# Altium schematic symbol library ESS9018.Schlib: 1 symbol
Pins are listed as number, name and electrical type; pins without a type are passive.

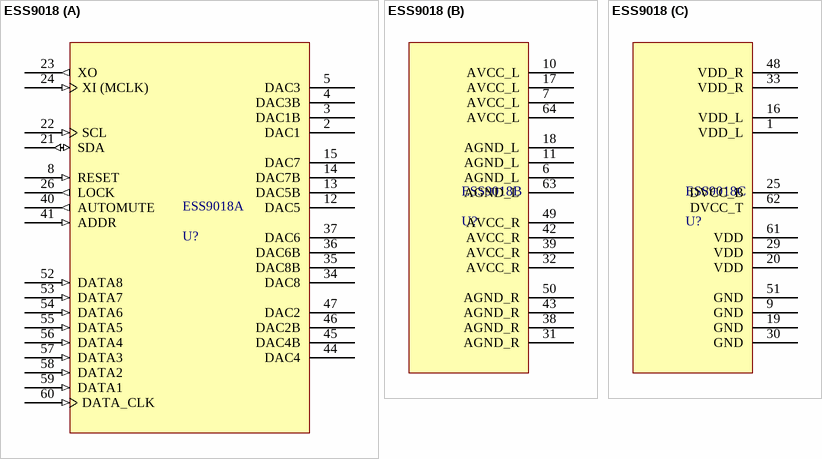
[diagram p0: symbol ESS9018]

## ESS9018
designator ESS9018, comment U?
Reference 32-bit Audio DAC
part A pins: 2 DAC1 "Differential Positive Analog Output 1", 3 DAC1B "Differential Negative Analog Output 1", 4 DAC3B "Differential Negaitve Analog Ouput 3", 5 DAC3 "Differential Positive Analog Output 3", 8 RESET (in) "Global Reset", 12 DAC5 "Differential Positive Analog Output 5", 13 DAC5B "Differential Negative Analog Output 5", 14 DAC7B "Differential Negative Analog Output 7", 15 DAC7 "Differential Positive Analog Output 7", 21 SDA (io) "I2C SDA", 22 SCL (in) "I2C SCL", 23 XO (out) "Xtal oscillator output", 24 XI (MCLK) (in) "Xtal oscillator input (Note:can also just be a clock input)", 26 LOCK (out) "Lock output", 34 DAC8 "Differential Positive Analog Output 8", 35 DAC8B "Differential Negative Analog Output 8", 36 DAC6B "Differential Negative Analog Output 6", 37 DAC6 "Differential Positive Analog Output 6", 40 AUTOMUTE (out) "Automute", 41 ADDR (in) "Chip Address Select", 44 DAC4 "Differential Positive Analog Output 4", 45 DAC4B "Differential Negative Analog Output 4", 46 DAC2B "Differential Negative Analog Output 2", 47 DAC2 "Differential Positive Analog Output 2", 52 DATA8 (in) "DSD Data8 or SPDIF Input8", 53 DATA7 (in) "DSD Data7 or SPDIF Input7", 54 DATA6 (in) "DSD Data6 or SPDIF Input6", 55 DATA5 (in) "DSD Data5 or PCM Data CH7/CH8 or SPDIF Input5", 56 DATA4 (in) "DSD Data4 or PCM Data CH5/CH6 or SPDIF Input4", 57 DATA3 (in) "DSD Data3 or PCM Data CH3/CH4 or SPDIF Input3", 58 DATA2 (in) "DSD Data2 or PCM Data CH1/CH2 or SPDIF Input2", 59 DATA1 (in) "DSD Data1 or PCM Frame Clock or SPDIF Input1", 60 DATA_CLK (in) "PCM Bit Clock or DSD Bit Clock"
part B pins: 6 AGND_L (power) "Analog Ground for Left channels", 7 AVCC_L (power) "Analog Power (+3.3V) for Left channels", 10 AVCC_L (power) "Analog Power (+3.3V) for Left channels", 11 AGND_L (power) "Analog Ground for Left channels", 17 AVCC_L (power) "Analog Power (+3.3V) for Left channels", 18 AGND_L (power) "Analog Ground for Left channels", 31 AGND_R (power) "Analog Ground for Right channels", 32 AVCC_R (power) "Analog Power (+3.3V) for Right channels", 38 AGND_R (power) "Analog Ground for Right channels", 39 AVCC_R (power) "Analog Power (+3.3V) for Right channels", 42 AVCC_R (power) "Analog Power (+3.3V) for Right channels", 43 AGND_R (power) "Analog Ground for Right channels", 49 AVCC_R (power) "Analog Power (+3.3V) for Right channels", 50 AGND_R (power) "Analog Ground for Right Channels", 63 AGND_L (power) "Analgo Ground for Left channels", 64 AVCC_L (power) "Analog power (+3.3V) for Left channels"
part C pins: 1 VDD_L (power) "Analog Power (+1.2V) for Left channels", 9 GND (power) "Digital Ground", 16 VDD_L (power) "Analog Power (+1.2V) for Left channels", 19 GND (power) "Digital Ground", 20 VDD (power) "Digital Power (+1.2V) for core of chip", 25 DVCC_B (power) "Digital Power for Bottom pad ring of chip", 29 VDD (power) "Digital Power (+1.2V) for core of chip", 30 GND (power) "Digital Ground", 33 VDD_R (power) "Analog Power (+1.2V) for Right channels", 48 VDD_R (power) "Analog Power (+1.2V) for Right channels", 51 GND (power) "Digital Ground", 61 VDD (power) "Digital Power (+1.2V) for core of chip", 62 DVCC_T (power) "Digital Power (+3.3V) for top pad ring of chip"